# Altium schematic symbol library Jumper 3.SchLib: 1 symbol
Pins are listed as number, name and electrical type; pins without a type are passive.

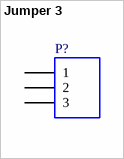
[diagram p0: symbol Jumper 3]

## Jumper 3
designator P?
Jumper / link header, 3-Pin
pins: 1, 2, 3